# EAGLE library part ATMEGA64 (library robo_ag)
MICROCONTROLLER 64 Kbytes FLASH 4 Kbytes SRAM 2 Kbytes EEPROM DUAL USART 8-channel 10 bit ADC Source: avr.lbr
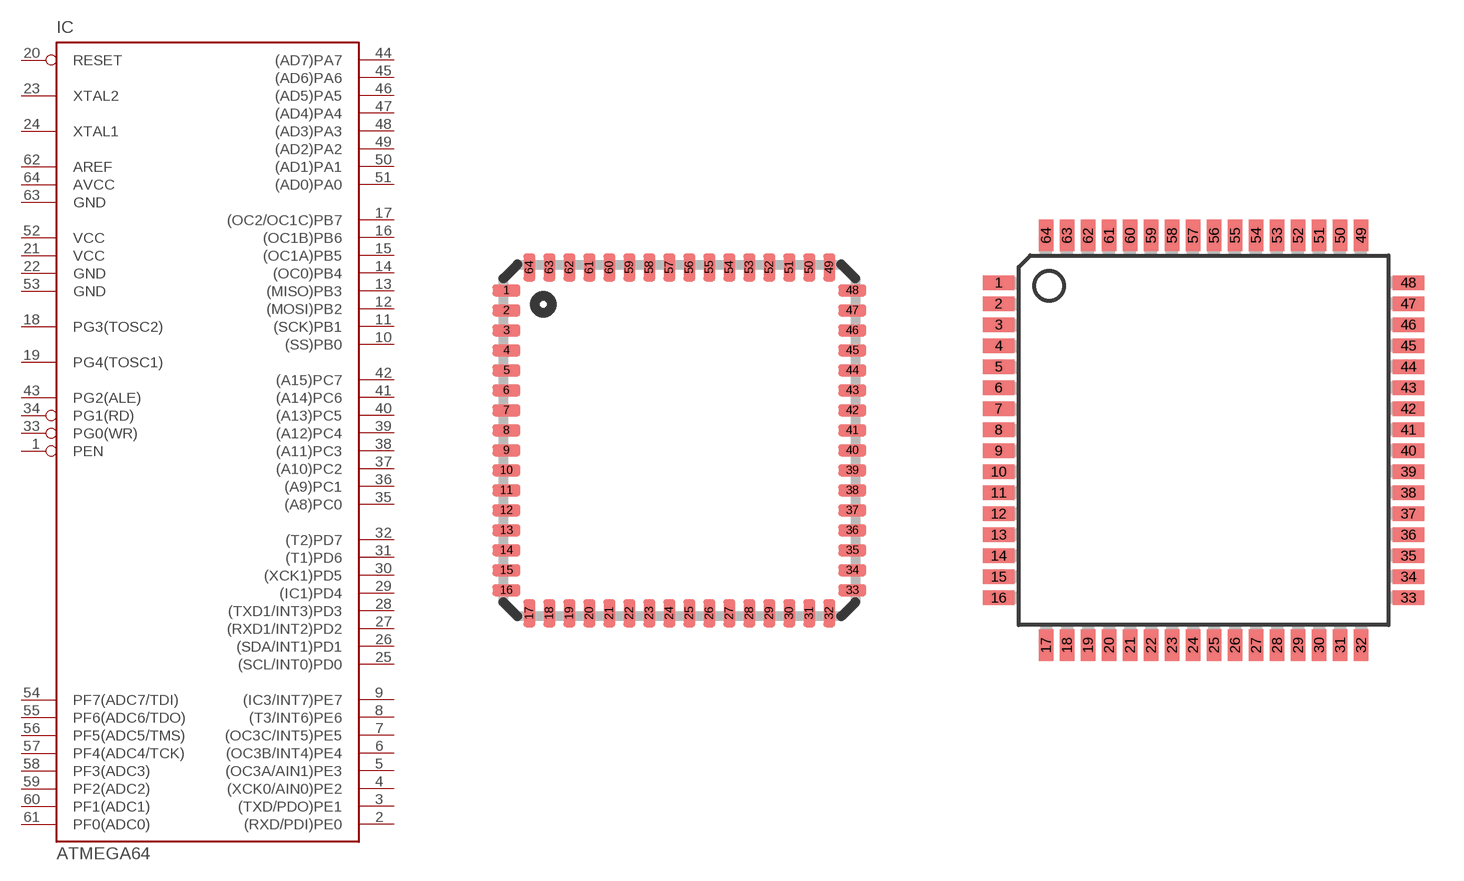
[diagram p0: symbol with the pads of IC_MLF64; footprints IC_MLF64, IC_TQFP64]

Designator prefix IC

## ATMEGA64-M  [IC_MLF64]
1  PEN  in
2  (RXD/PDI)PE0
3  (TXD/PDO)PE1
4  (XCK0/AIN0)PE2
5  (OC3A/AIN1)PE3
6  (OC3B/INT4)PE4
7  (OC3C/INT5)PE5
8  (T3/INT6)PE6
9  (IC3/INT7)PE7
10  (SS)PB0
11  (SCK)PB1
12  (MOSI)PB2
13  (MISO)PB3
14  (OC0)PB4
15  (OC1A)PB5
16  (OC1B)PB6
17  (OC2/OC1C)PB7
18  PG3(TOSC2)
19  PG4(TOSC1)
20  RESET  in
21  VCC  pwr
22  GND  pwr
23  XTAL2
24  XTAL1
25  (SCL/INT0)PD0
26  (SDA/INT1)PD1
27  (RXD1/INT2)PD2
28  (TXD1/INT3)PD3
29  (IC1)PD4
30  (XCK1)PD5
31  (T1)PD6
32  (T2)PD7
33  PG0(WR)
34  PG1(RD)
35  (A8)PC0  out
36  (A9)PC1  out
37  (A10)PC2  out
38  (A11)PC3  out
39  (A12)PC4  out
40  (A13)PC5  out
41  (A14)PC6  out
42  (A15)PC7  out
43  PG2(ALE)
44  (AD7)PA7
45  (AD6)PA6
46  (AD5)PA5
47  (AD4)PA4
48  (AD3)PA3
49  (AD2)PA2
50  (AD1)PA1
51  (AD0)PA0
52  VCC  pwr
53  GND  pwr
54  PF7(ADC7/TDI)  in
55  PF6(ADC6/TDO)  in
56  PF5(ADC5/TMS)  in
57  PF4(ADC4/TCK)  in
58  PF3(ADC3)  in
59  PF2(ADC2)  in
60  PF1(ADC1)  in
61  PF0(ADC0)  in
62  AREF  pas
63  GND  pwr
64  AVCC  pwr

## ATMEGA64-A  [IC_TQFP64]
Pads as for IC_MLF64

## ATMEGA64-SOCKEL  [SOCKEL_TQFP64]
P$1  PEN  in
P$2  (RXD/PDI)PE0
P$3  (TXD/PDO)PE1
P$4  (XCK0/AIN0)PE2
P$5  (OC3A/AIN1)PE3
P$6  (OC3B/INT4)PE4
P$7  (OC3C/INT5)PE5
P$8  (T3/INT6)PE6
P$9  (IC3/INT7)PE7
P$10  (SS)PB0
P$11  (SCK)PB1
P$12  (MOSI)PB2
P$13  (MISO)PB3
P$14  (OC0)PB4
P$15  (OC1A)PB5
P$16  (OC1B)PB6
P$17  (OC2/OC1C)PB7
P$18  PG3(TOSC2)
P$19  PG4(TOSC1)
P$20  RESET  in
P$21  VCC  pwr
P$22  GND  pwr
P$23  XTAL2
P$24  XTAL1
P$25  (SCL/INT0)PD0
P$26  (SDA/INT1)PD1
P$27  (RXD1/INT2)PD2
P$28  (TXD1/INT3)PD3
P$29  (IC1)PD4
P$30  (XCK1)PD5
P$31  (T1)PD6
P$32  (T2)PD7
P$33  PG0(WR)
P$34  PG1(RD)
P$35  (A8)PC0  out
P$36  (A9)PC1  out
P$37  (A10)PC2  out
P$38  (A11)PC3  out
P$39  (A12)PC4  out
P$40  (A13)PC5  out
P$41  (A14)PC6  out
P$42  (A15)PC7  out
P$43  PG2(ALE)
P$44  (AD7)PA7
P$45  (AD6)PA6
P$46  (AD5)PA5
P$47  (AD4)PA4
P$48  (AD3)PA3
P$49  (AD2)PA2
P$50  (AD1)PA1
P$51  (AD0)PA0
P$52  VCC  pwr
P$53  GND  pwr
P$54  PF7(ADC7/TDI)  in
P$55  PF6(ADC6/TDO)  in
P$56  PF5(ADC5/TMS)  in
P$57  PF4(ADC4/TCK)  in
P$58  PF3(ADC3)  in
P$59  PF2(ADC2)  in
P$60  PF1(ADC1)  in
P$61  PF0(ADC0)  in
P$62  AREF  pas
P$63  GND  pwr
P$64  AVCC  pwr

## Footprint IC_MLF64 (pad centres in mm)
64M1 Micro Lead Frame package (MLF)
smd 0.7 x 0.3: 1 -4.325,3.75; 2 -4.325,3.25; 3 -4.325,2.75; 4 -4.325,2.25; 5 -4.325,1.75; 6 -4.325,1.25; 7 -4.325,0.75; 8 -4.325,0.25; 9 -4.325,-0.25; 10 -4.325,-0.75; 11 -4.325,-1.25; 12 -4.325,-1.75; 13 -4.325,-2.25; 14 -4.325,-2.75; 15 -4.325,-3.25; 16 -4.325,-3.75; 33 4.325,-3.75; 34 4.325,-3.25; 35 4.325,-2.75; 36 4.325,-2.25; 37 4.325,-1.75; 38 4.325,-1.25; 39 4.325,-0.75; 40 4.325,-0.25; 41 4.325,0.25; 42 4.325,0.75; 43 4.325,1.25; 44 4.325,1.75; 45 4.325,2.25; 46 4.325,2.75; 47 4.325,3.25; 48 4.325,3.75
smd 0.3 x 0.7: 17 -3.75,-4.325; 18 -3.25,-4.325; 19 -2.75,-4.325; 20 -2.25,-4.325; 21 -1.75,-4.325; 22 -1.25,-4.325; 23 -0.75,-4.325; 24 -0.25,-4.325; 25 0.25,-4.325; 26 0.75,-4.325; 27 1.25,-4.325; 28 1.75,-4.325; 29 2.25,-4.325; 30 2.75,-4.325; 31 3.25,-4.325; 32 3.75,-4.325; 49 3.75,4.325; 50 3.25,4.325; 51 2.75,4.325; 52 2.25,4.325; 53 1.75,4.325; 54 1.25,4.325; 55 0.75,4.325; 56 0.25,4.325; 57 -0.25,4.325; 58 -0.75,4.325; 59 -1.25,4.325; 60 -1.75,4.325; 61 -2.25,4.325; 62 -2.75,4.325; 63 -3.25,4.325; 64 -3.75,4.325

## Footprint IC_TQFP64 (pad centres in mm)
Thin Plasic Quad Flat Package Updated from atml.lbr 17.01.2005 alf@cadsoft.de
smd 1.194 x 0.559: 1 -7.8,6; 2 -7.8,5.2; 3 -7.8,4.4; 4 -7.8,3.6; 5 -7.8,2.8; 6 -7.8,2; 7 -7.8,1.2; 8 -7.8,0.4; 9 -7.8,-0.4; 10 -7.8,-1.2; 11 -7.8,-2; 12 -7.8,-2.8; 13 -7.8,-3.6; 14 -7.8,-4.4; 15 -7.8,-5.2; 16 -7.8,-6; 33 7.8,-6; 34 7.8,-5.2; 35 7.8,-4.4; 36 7.8,-3.6; 37 7.8,-2.8; 38 7.8,-2; 39 7.8,-1.2; 40 7.8,-0.4; 41 7.8,0.4; 42 7.8,1.2; 43 7.8,2; 44 7.8,2.8; 45 7.8,3.6; 46 7.8,4.4; 47 7.8,5.2; 48 7.8,6
smd 0.559 x 1.194: 17 -6,-7.8; 18 -5.2,-7.8; 19 -4.4,-7.8; 20 -3.6,-7.8; 21 -2.8,-7.8; 22 -2,-7.8; 23 -1.2,-7.8; 24 -0.4,-7.8; 25 0.4,-7.8; 26 1.2,-7.8; 27 2,-7.8; 28 2.8,-7.8; 29 3.6,-7.8; 30 4.4,-7.8; 31 5.2,-7.8; 32 6,-7.8; 49 6,7.8; 50 5.2,7.8; 51 4.4,7.8; 52 3.6,7.8; 53 2.8,7.8; 54 2,7.8; 55 1.2,7.8; 56 0.4,7.8; 57 -0.4,7.8; 58 -1.2,7.8; 59 -2,7.8; 60 -2.8,7.8; 61 -3.6,7.8; 62 -4.4,7.8; 63 -5.2,7.8; 64 -6,7.8

## Footprint SOCKEL_TQFP64 (pad centres in mm)
Sockel TQFP64 Autor: Pete(r) Datum: xx.xx.2012
drill 1 long: P$1 -22.86,19.05; P$2 -22.86,16.51; P$3 -22.86,13.97; P$4 -22.86,11.43; P$5 -22.86,8.89; P$6 -22.86,6.35; P$7 -22.86,3.81; P$8 -22.86,1.27; P$9 -22.86,-1.27; P$10 -22.86,-3.81; P$11 -22.86,-6.35; P$12 -22.86,-8.89; P$13 -22.86,-11.43; P$14 -22.86,-13.97; P$15 -22.86,-16.51; P$16 -22.86,-19.05; P$17 -19.05,-22.86; P$18 -16.51,-22.86; P$19 -13.97,-22.86; P$20 -11.43,-22.86; P$21 -8.89,-22.86; P$22 -6.35,-22.86; P$23 -3.81,-22.86; P$24 -1.27,-22.86; P$25 1.27,-22.86; P$26 3.81,-22.86; P$27 6.35,-22.86; P$28 8.89,-22.86; P$29 11.43,-22.86; P$30 13.97,-22.86; P$31 16.51,-22.86; P$32 19.05,-22.86; P$33 22.86,-19.05; P$34 22.86,-16.51; P$35 22.86,-13.97; P$36 22.86,-11.43; P$37 22.86,-8.89; P$38 22.86,-6.35; P$39 22.86,-3.81; P$40 22.86,-1.27; P$41 22.86,1.27; P$42 22.86,3.81; P$43 22.86,6.35; P$44 22.86,8.89; P$45 22.86,11.43; P$46 22.86,13.97; P$47 22.86,16.51; P$48 22.86,19.05; P$49 19.05,22.86; P$50 16.51,22.86; P$51 13.97,22.86; P$52 11.43,22.86; P$53 8.89,22.86; P$54 6.35,22.86; P$55 3.81,22.86; P$56 1.27,22.86; P$57 -1.27,22.86; P$58 -3.81,22.86; P$59 -6.35,22.86; P$60 -8.89,22.86; P$61 -11.43,22.86; P$62 -13.97,22.86; P$63 -16.51,22.86; P$64 -19.05,22.86